# Altium footprint library MF-RESISTORS.PcbLib: 5 footprints
Each footprint in its own frame and in the unit in brackets; x right, y up, seen from the top. Pads: shape width x height; smd on the part's side, far side on the other; paste and mask are expansions set on the pad; w line width, h text height; cw(c..) or ccw(c..) is an arc to the next point about the centre after c.
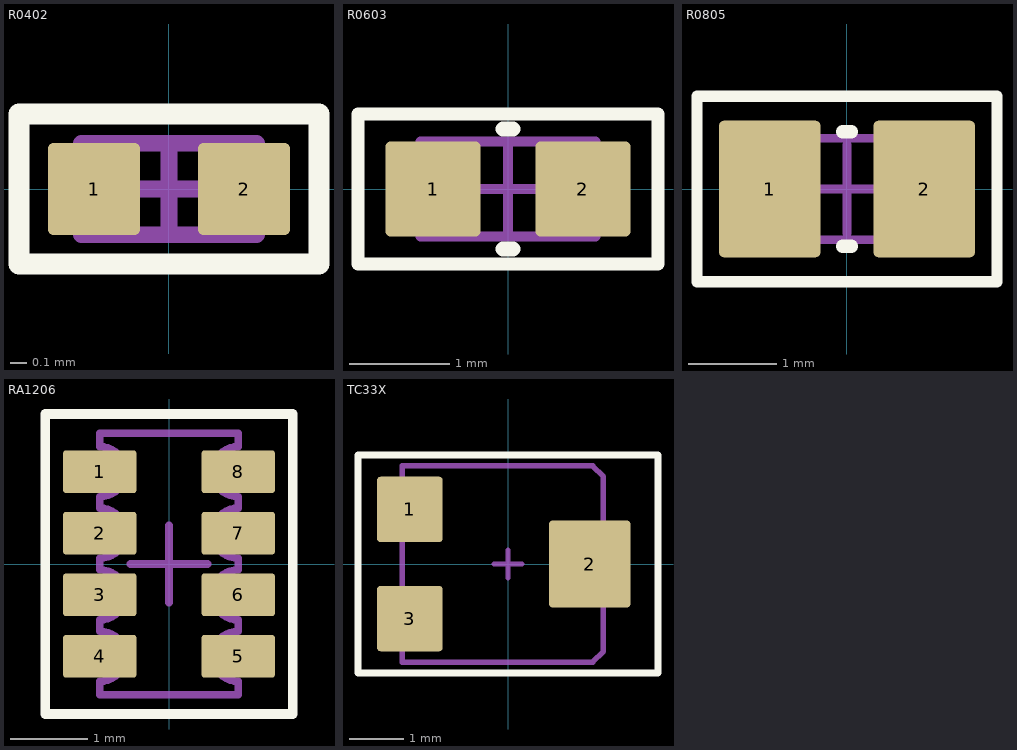
[diagram p0: the footprints below, top view; thin cyan lines are the x and y axes]

## R0402 [mm] "Chip Resistor, 2-Leads, Body 1.00x0.50mm, IPC Medium Density"
height 0.4
pads (2):
  rrect10% 0.55x0.55 smd mask+0.05: 1(-0.45,0) 2(0.45,0)
Top Overlay:
  lines w0.127: -0.9,-0.45 0.9,-0.45 0.9,0.45 -0.9,0.45 -0.9,-0.45
Top Assembly:
  lines w0.1: -0.525,-0.275 -0.525,0.275 0.525,0.275 0.525,-0.275 -0.525,-0.275
Top Courtyard:
  lines w0.05: -0.9,-0.45 -0.9,0.45 0.9,0.45 0.9,-0.45 -0.9,-0.45
  lines w0.1: -0.275,0 0.275,0 ; 0,-0.275 0,0.275
3D body "RES 0402.step": height 0.4, standoff 0, extent -0.525,-0.275 0.525,0.275

## R0603 [mm] "Chip Resistor, 2-Leads, Body 1.60x0.85mm, IPC Medium Density"
height 0.55
pads (2):
  rrect10% 0.95x0.95 smd mask+0.07: 1(-0.75,0) 2(0.75,0)
Top Overlay:
  lines w0.127: -1.5,-0.75 1.5,-0.75 1.5,0.75 -1.5,0.75 -1.5,-0.75
  lines w0.152: -0.05,-0.6 0.05,-0.6 ; -0.05,0.6 0.05,0.6
Top Assembly:
  lines w0.1: -0.875,-0.475 -0.875,0.475 0.875,0.475 0.875,-0.475 -0.875,-0.475
Top Courtyard:
  lines w0.05: -1.5,-0.75 -1.5,0.75 1.5,0.75 1.5,-0.75 -1.5,-0.75
  lines w0.1: -0.475,0 0.475,0 ; 0,-0.475 0,0.475
3D body "RES 0603.step": height 0.55, standoff 0, extent -0.875,-0.475 0.875,0.475

## R0805 [mm] "Chip Resistor, 2-Leads, Body 2.00x1.25mm, IPC Medium Density"
height 0.7
pads (2):
  rrect10% 1.15x1.55 smd mask+0.07: 1(-0.875,0) 2(0.875,0)
Top Overlay:
  lines w0.127: -1.7,-1.05 -1.7,1.05 1.7,1.05 1.7,-1.05 -1.7,-1.05
  lines w0.15: -0.05,-0.65 0.05,-0.65 ; -0.05,0.65 0.05,0.65
Top Assembly:
  lines w0.1: -1.1,-0.575 1.1,-0.575 1.1,0.575 -1.1,0.575 -1.1,-0.575
Top Courtyard:
  lines w0.05: -1.7,-1.05 1.7,-1.05 1.7,1.05 -1.7,1.05 -1.7,-1.05
  lines w0.1: -0.5,0 0.5,0 ; 0,-0.5 0,0.5
3D body "RES 0805.step": height 0.7, standoff 0, extent -1.1,-0.575 1.1,0.575

## RA1206 [mm] "Chip Array, Concave, 8-Leads, Pitch 0.80mm,  Body 3.20x1.60mm,  IPC Medium Density"
height 0.6
pads (8):
  rrect10% 0.95x0.55 smd mask+0.05: 1(-0.9,1.2) 2(-0.9,0.4) 3(-0.9,-0.4) 4(-0.9,-1.2) 5(0.9,-1.2) 6(0.9,-0.4) 7(0.9,0.4) 8(0.9,1.2)
Top Overlay:
  lines w0.127: -1.61,-1.95 -1.61,1.95 1.61,1.95 1.61,-1.95 -1.61,-1.95
Top Assembly:
  lines w0.1: -0.9,-1.7 -0.9,-1.525 ccw(c-0.9,-1.2) -0.9,-0.875 -0.9,-0.725 ccw(c-0.9,-0.4) -0.9,-0.075 -0.9,0.075 ccw(c-0.9,0.4) -0.9,0.725 -0.9,0.875 ccw(c-0.9,1.2) -0.9,1.525 -0.9,1.7 0.9,1.7 0.9,1.525 ccw(c0.9,1.2) 0.9,0.875 0.9,0.725 ccw(c0.9,0.4) 0.9,0.075 0.9,-0.075 ccw(c0.9,-0.4) 0.9,-0.725 0.9,-0.875 ccw(c0.9,-1.2) 0.9,-1.525 0.9,-1.7 -0.9,-1.7
Top Courtyard:
  lines w0.05: -1.61,-1.95 -1.61,1.95 1.61,1.95 1.61,-1.95 -1.61,-1.95
  lines w0.1: -0.5,0 0.5,0 ; 0,-0.5 0,0.5
3D body "RA1206.step": height 0.6, standoff 0, extent -0.95,-1.7 0.95,1.7

## TC33X [mm] "3 mm SMD Trimpot®"
height 1.2
pads (3):
  rrect10% 1.2x1.2 smd: 1(-1.8,1) 3(-1.8,-1)
  rrect10% 1.5x1.6 smd: 2(1.5,0)
Top Overlay:
  lines w0.127: -2.75,-2 2.75,-2 2.75,2 -2.75,2 -2.75,-2
Top Assembly:
  lines w0.1: -1.935,-1.8 1.55,-1.8 1.75,-1.6 1.75,1.6 1.55,1.8 -1.935,1.8 -1.935,-1.8
Top Courtyard:
  lines w0.05: -2.75,-2 2.75,-2 2.75,2 -2.75,2 -2.75,-2
  lines w0.1: -0.25,0 0.25,0 ; 0,-0.25 0,0.25
3D body "TC-33X-1.stp": height 1.18, standoff 0.01, extent -1.962,-1.8 1.9,1.8